# Altium footprint library PTS636SL43LFS.PcbLib: 1 footprints
Each footprint in its own frame and in the unit in brackets; x right, y up, seen from the top. Pads: shape width x height; smd on the part's side, far side on the other; paste and mask are expansions set on the pad; w line width, h text height; cw(c..) or ccw(c..) is an arc to the next point about the centre after c.
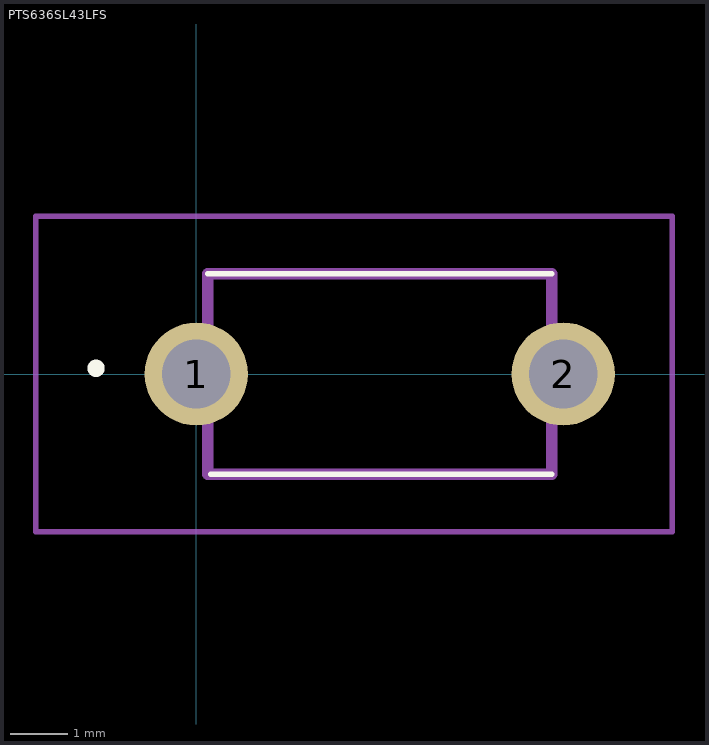
[diagram p0: the footprint, top view; thin cyan lines are the x and y axes]

## PTS636SL43LFS [mm]
pads (2):
  round 1.8 hole 1.2: 1(0,0) 2(6.4,0)
Top Overlay:
  lines w0.1: 0.2,1.75 6.2,1.75 ; 0.2,1.75 6.2,1.75 ; 0.2,1.75 0.2,1.75 ; 0.25,-1.75 6.2,-1.75 ; 0.25,-1.75 6.2,-1.75 ; 0.25,-1.75 0.25,-1.75 ; 6.2,-1.75 6.2,-1.75 ; 6.2,1.75 6.2,1.75
  lines w0.2: -1.8,0.1 -1.8,0.1 ; -1.8,0.1 ccw(c-1.75,0.1) -1.7,0.1 ; -1.8,0.1 cw(c-1.75,0.1) -1.7,0.1 ; -1.8,0.1 -1.8,0.1 ; -1.8,0.1 ccw(c-1.75,0.1) -1.7,0.1 ; -1.7,0.1 -1.7,0.1
Mechanical 15:
  lines w0.2: 0.2,-1.75 6.2,-1.75 6.2,1.75 0.2,1.75 0.2,-1.75
Mechanical 20:
  lines w0.1: -2.8,-2.75 8.3,-2.75 8.3,2.75 -2.8,2.75 -2.8,-2.75